# Altium schematic symbol library Power_Pad_TH.SchLib: 1 symbol
Pins are listed as number, name and electrical type; pins without a type are passive.

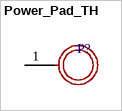
[diagram p0: symbol Power_Pad_TH]

## Power_Pad_TH
designator P?
=Description
pins: 1